# EAGLE library part TPS2051BDGN (library TPS2051BDGN)
Single, Current-Limited, Power-Distribution Switch Source: Datasheet <http://www.ti.com/lit/gpn/TPS2051B>
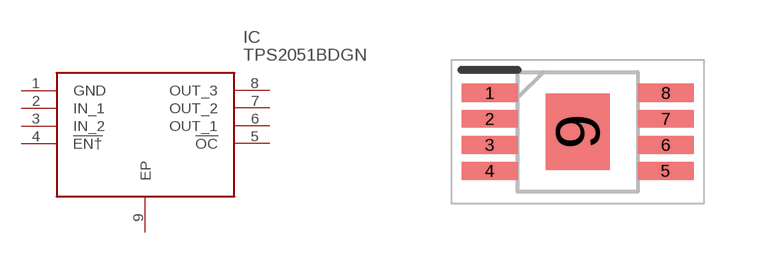
[diagram p0: symbol with the pads of SOP65P490X110-9N; footprint SOP65P490X110-9N]

Designator prefix IC

## TPS2051BDGN (Description: Single, Current-Limited, Power-Distribution Switch; Height: 1.1mm; Manufacturer_Name: Texas Instruments; Manufacturer_Part_Number: TPS2051BDGN; Mouser_Part_Number: 595-TPS2051BDGN; Mouser_Price-Stock: https://www.mouser.co.uk/ProductDetail/Texas-Instruments/TPS2051BDGN?qs=ojKcPFmCWSUKr%252BVWzrslRQ%3D%3D)  [SOP65P490X110-9N]
1  GND
2  IN_1
3  IN_2
4  !EN†
5  !OC
6  OUT_1
7  OUT_2
8  OUT_3
9  EP

## Footprint SOP65P490X110-9N (pad centres in mm)
DGN0008C
smd 1.4 x 0.45: 1 -2.2,0.975; 2 -2.2,0.325; 3 -2.2,-0.325; 4 -2.2,-0.975; 5 2.2,-0.975; 6 2.2,-0.325; 7 2.2,0.325; 8 2.2,0.975
smd 1.6 x 1.92: 9 0,0